# Altium footprint library Filters.PcbLib: 6 footprints
Each footprint in its own frame and in the unit in brackets; x right, y up, seen from the top. Pads: shape width x height; smd on the part's side, far side on the other; paste and mask are expansions set on the pad; w line width, h text height; cw(c..) or ccw(c..) is an arc to the next point about the centre after c.
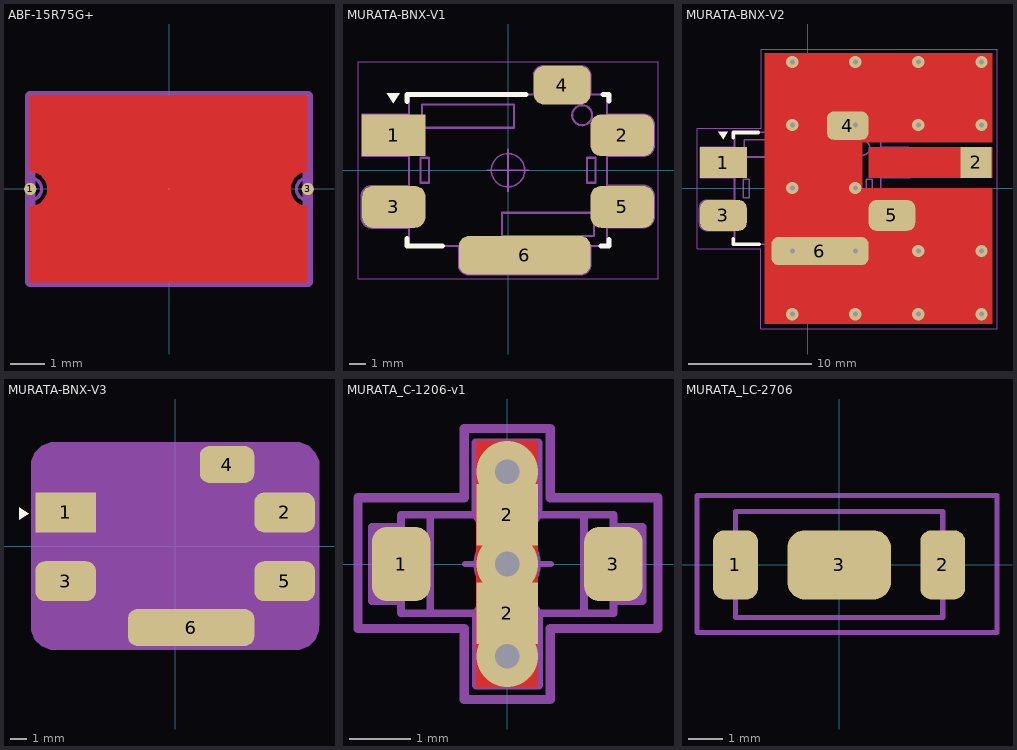
[diagram p0: the footprints below, top view; thin cyan lines are the x and y axes]

## ABF-15R75G+ [mm]
height 2.03
pads (3):
  round 0.36 smd: 1(-4.065,0) 3(4.065,0)
  round 0.025 smd: 2(0,0)
Top Layer:
  region: -4.065,-2.726 -4.065,-0.5 -4.016,-0.498 -3.92,-0.478 -3.829,-0.441 -3.748,-0.386 -3.679,-0.317 -3.624,-0.236 -3.587,-0.145 -3.568,-0.049 -3.568,0.049 -3.587,0.145 -3.624,0.236 -3.679,0.317 -3.748,0.386 -3.829,0.441 -3.92,0.478 -4.016,0.497 -4.065,0.5 -4.065,2.726 4.058,2.726 4.058,0.5 4.009,0.497 3.913,0.478 3.823,0.44 3.742,0.385 3.674,0.316 3.62,0.235 3.583,0.144 3.564,0.049 3.564,-0.049 3.583,-0.144 3.62,-0.235 3.674,-0.316 3.742,-0.385 3.823,-0.44 3.913,-0.478 4.009,-0.497 4.058,-0.5 4.058,-2.726
Top Assembly:
  lines w0.3: -4.065,-2.726 4.065,-2.726 4.065,2.726 -4.065,2.726 -4.065,-2.726
BOAS 7:
  lines w0.1: -4.065,-2.726 4.065,-2.726 4.065,-0.33 cw(c4.065,0) 4.065,0.33 4.065,2.726 -4.065,2.726 -4.065,0.33 cw(c-4.065,0) -4.065,-0.33 -4.065,-2.726
3D body: height 2.03, standoff 0, extent -4.065,-2.726 4.065,2.864

## MURATA-BNX-V1 [mm]
pads (6):
  rect 3.8x2.5 smd: 1(-6.85,2.1)
  rrect50% 3.8x2.5 smd: 2(6.85,2.1) 3(-6.85,-2.2) 5(6.85,-2.2)
  rrect50% 3.4x2.3 smd: 4(3.25,5.1)
  rrect50% 7.9x2.3 smd: 6(1,-5.1)
Top Overlay:
  region: -6.483,4.613 -7.283,4.613 -6.883,4.013
  lines w0.3: -6.05,-4.089 -6.05,-4.55 -3.937,-4.55 ; -6.05,4.115 -6.05,4.55 1.067,4.55 ; 5.588,-4.55 6.05,-4.55 6.05,-4.14 ; 5.69,4.55 6.05,4.55 6.05,4.166
Top Assembly:
  circle w0.127: c4.45,3.3 r0.6
  lines w0.127: -6,-3.45 -8.175,-3.45 cw(c-8.175,-2.825) -8.8,-2.825 -8.8,-1.575 cw(c-8.175,-1.575) -8.175,-0.95 -6,-0.95 ; -5.95,-2.75 -6.05,-2.75 -6.05,-1.45 -5.95,-1.45 ; -5.95,0.85 -8.75,0.85 -8.75,3.35 -5.95,3.35 ; -5.95,1.45 -6.05,1.45 -6.05,2.75 -5.95,2.75 ; -2.95,-4.55 -2.95,-5.675 ccw(c-2.375,-5.675) -2.375,-6.25 4.375,-6.25 ccw(c4.375,-5.675) 4.95,-5.675 4.95,-4.55 ; 5.95,-3.425 8.125,-3.425 ccw(c8.125,-2.8) 8.75,-2.8 8.75,-1.55 ccw(c8.125,-1.55) 8.125,-0.925 5.95,-0.925 ; 5.95,-2.75 6.05,-2.75 6.05,-1.45 5.95,-1.45 ; 5.95,0.85 8.125,0.85 ccw(c8.125,1.475) 8.75,1.475 8.75,2.725 ccw(c8.125,2.725) 8.125,3.35 5.95,3.35 ; 5.95,1.45 6.05,1.45 6.05,2.75 5.95,2.75 ; -5.95,-4.55 5.95,-4.55 5.95,4.55 -5.95,4.55 -5.95,-4.55 ; -5.25,-0.75 -4.75,-0.75 -4.75,0.75 -5.25,0.75 -5.25,-0.75 ; -5.15,2.55 0.35,2.55 0.35,3.95 -5.15,3.95 -5.15,2.55 ; -0.35,-3.95 5.15,-3.95 5.15,-2.55 -0.35,-2.55 -0.35,-3.95 ; 1.55,4.55 2.05,4.55 4.45,4.55 4.95,4.55 4.95,5.675 ccw(c4.375,5.675) 4.375,6.25 2.125,6.25 ccw(c2.125,5.675) 1.55,5.675 1.55,4.55 ; 4.75,-0.75 5.25,-0.75 5.25,0.75 4.75,0.75 4.75,-0.75
Top Component Outline:
  lines w0.05: -9,-6.5 9,-6.5 9,6.5 -9,6.5 -9,-6.5
  lines w0.1: -1.25,0 1.25,0 ; 0,-1.25 0,1.25
Top Component Center:
  circle w0.1: c0,0 r1
3D body "BNX022-01L.stp": height 3.33, standoff 0.03, extent -8.75,-6.25 8.75,6.25

## MURATA-BNX-V2 [mm]
pads (6):
  rect 3.8x2.5 smd: 1(-6.85,2.1)
  rect 2.5x2.5 smd mask+0.102: 2(13.691,2.108)
  rrect50% 3.8x2.5 smd: 3(-6.85,-2.2) 5(6.85,-2.2)
  rrect50% 3.4x2.3 smd: 4(3.25,5.1)
  rrect50% 7.9x2.3 smd: 6(1,-5.1)
via 3.875,0.025 diameter 1 hole 0.4
via 3.875,-5.1 diameter 1 hole 0.4
via -1.25,-5.1 diameter 1 hole 0.4
via -1.25,0.025 diameter 1 hole 0.4
via 3.875,-10.225 diameter 1 hole 0.4
via -1.25,-10.225 diameter 1 hole 0.4
via 3.875,5.15 diameter 1 hole 0.4
via -1.25,5.15 diameter 1 hole 0.4
via 3.875,10.275 diameter 1 hole 0.4
via -1.25,10.275 diameter 1 hole 0.4
via 9,5.15 diameter 1 hole 0.4
via 9,10.275 diameter 1 hole 0.4
via 14.125,5.15 diameter 1 hole 0.4
via 14.125,10.275 diameter 1 hole 0.4
via 9,-10.225 diameter 1 hole 0.4
via 9,-5.1 diameter 1 hole 0.4
via 14.125,-10.225 diameter 1 hole 0.4
via 14.125,-5.1 diameter 1 hole 0.4
Top Layer:
  region: -3.5,11 -3.5,0 -3.5,-11 15,-11 15,0 4.45,0 4.45,3.75 15,3.75 15,11 4.45,11
  region: 4.95,0.85 15,0.85 15,3.35 4.95,3.35
Top Overlay:
  region: -6.483,4.613 -7.283,4.613 -6.883,4.013
  lines w0.3: -6.05,-4.089 -6.05,-4.55 -3.937,-4.55 ; -6.05,4.115 -6.05,4.55 -4.039,4.55
Top Assembly:
  circle w0.127: c4.45,3.3 r0.6
  lines w0.127: -6,-3.45 -8.175,-3.45 cw(c-8.175,-2.825) -8.8,-2.825 -8.8,-1.575 cw(c-8.175,-1.575) -8.175,-0.95 -6,-0.95 ; -5.95,-2.75 -6.05,-2.75 -6.05,-1.45 -5.95,-1.45 ; -5.95,0.85 -8.75,0.85 -8.75,3.35 -5.95,3.35 ; -5.95,1.45 -6.05,1.45 -6.05,2.75 -5.95,2.75 ; -2.95,-4.55 -2.95,-5.675 ccw(c-2.375,-5.675) -2.375,-6.25 4.375,-6.25 ccw(c4.375,-5.675) 4.95,-5.675 4.95,-4.55 ; 5.95,-3.425 8.125,-3.425 ccw(c8.125,-2.8) 8.75,-2.8 8.75,-1.55 ccw(c8.125,-1.55) 8.125,-0.925 5.95,-0.925 ; 5.95,-2.75 6.05,-2.75 6.05,-1.45 5.95,-1.45 ; 5.95,0.85 8.125,0.85 ccw(c8.125,1.475) 8.75,1.475 8.75,2.725 ccw(c8.125,2.725) 8.125,3.35 5.95,3.35 ; 5.95,1.45 6.05,1.45 6.05,2.75 5.95,2.75 ; -5.95,-4.55 -5.95,4.55 5.95,4.55 5.95,-4.55 -5.95,-4.55 ; -5.25,-0.75 -5.25,0.75 -4.75,0.75 -4.75,-0.75 -5.25,-0.75 ; -5.15,2.55 -5.15,3.95 0.35,3.95 0.35,2.55 -5.15,2.55 ; -0.35,-3.95 -0.35,-2.55 5.15,-2.55 5.15,-3.95 -0.35,-3.95 ; 1.55,4.55 1.55,5.675 cw(c2.125,5.675) 2.125,6.25 4.375,6.25 cw(c4.375,5.675) 4.95,5.675 4.95,4.55 4.45,4.55 2.05,4.55 1.55,4.55 ; 4.75,-0.75 4.75,0.75 5.25,0.75 5.25,-0.75 4.75,-0.75
Top Component Outline:
  lines w0.05: -9,-4.928 -9,4.877 -3.759,4.877 -3.759,11.303 15.392,11.303 15.392,-11.405 -3.835,-11.405 -3.835,-4.928 -9,-4.928
  lines w0.1: -1.25,0 1.25,0 ; 0,-1.25 0,1.25
Top Component Center:
  circle w0.1: c0,0 r1
3D body "BNX022-01L.stp": height 3.33, standoff 0.03, extent -8.75,-6.25 8.75,6.25

## MURATA-BNX-V3 [mm]
pads (6):
  rect 3.8x2.5 smd: 1(-6.85,2.1)
  rrect50% 3.8x2.5 smd: 2(6.85,2.1) 3(-6.85,-2.2) 5(6.85,-2.2)
  rrect50% 3.4x2.3 smd: 4(3.25,5.1)
  rrect50% 7.9x2.3 smd: 6(1,-5.1)
Top Overlay:
  region: -9.769,2.432 -9.769,1.632 -9.169,2.032
Top Solder:
  region: -7.5,-6.5 7.5,-6.5 7.648,-6.5 7.938,-6.442 8.211,-6.329 8.456,-6.165 8.665,-5.956 8.829,-5.711 8.942,-5.438 9,-5.148 9,-5 9,5 9,5.148 8.942,5.438 8.829,5.711 8.665,5.956 8.456,6.165 8.211,6.329 7.938,6.442 7.648,6.5 7.5,6.5 -7.5,6.5 -7.648,6.5 -7.938,6.442 -8.211,6.329 -8.456,6.165 -8.665,5.956 -8.829,5.711 -8.942,5.438 -9,5.148 -9,5 -9,-5 -9,-5.148 -8.942,-5.438 -8.829,-5.711 -8.665,-5.956 -8.456,-6.165 -8.211,-6.329 -7.938,-6.442 -7.648,-6.5
Board:
  cavity: -7.5,-6.5 7.5,-6.5 7.798,-6.5 8.35,-6.272 8.772,-5.85 9,-5.298 9,-5 9,5 9,5.298 8.772,5.85 8.35,6.272 7.798,6.5 7.5,6.5 -7.5,6.5 -7.798,6.5 -8.35,6.272 -8.772,5.85 -9,5.298 -9,5 -9,-5 -9,-5.298 -8.772,-5.85 -8.35,-6.272 -7.798,-6.5
Top Assembly:
  circle w0.127: c4.45,3.3 r0.6
  lines w0.127: -6,-3.45 -8.175,-3.45 cw(c-8.175,-2.825) -8.8,-2.825 -8.8,-1.575 cw(c-8.175,-1.575) -8.175,-0.95 -6,-0.95 ; -5.95,-2.75 -6.05,-2.75 -6.05,-1.45 -5.95,-1.45 ; -5.95,0.85 -8.75,0.85 -8.75,3.35 -5.95,3.35 ; -5.95,1.45 -6.05,1.45 -6.05,2.75 -5.95,2.75 ; -2.95,-4.55 -2.95,-5.675 ccw(c-2.375,-5.675) -2.375,-6.25 4.375,-6.25 ccw(c4.375,-5.675) 4.95,-5.675 4.95,-4.55 ; 5.95,-3.425 8.125,-3.425 ccw(c8.125,-2.8) 8.75,-2.8 8.75,-1.55 ccw(c8.125,-1.55) 8.125,-0.925 5.95,-0.925 ; 5.95,-2.75 6.05,-2.75 6.05,-1.45 5.95,-1.45 ; 5.95,0.85 8.125,0.85 ccw(c8.125,1.475) 8.75,1.475 8.75,2.725 ccw(c8.125,2.725) 8.125,3.35 5.95,3.35 ; 5.95,1.45 6.05,1.45 6.05,2.75 5.95,2.75 ; -5.95,-4.55 5.95,-4.55 5.95,4.55 -5.95,4.55 -5.95,-4.55 ; -5.25,-0.75 -4.75,-0.75 -4.75,0.75 -5.25,0.75 -5.25,-0.75 ; -5.15,2.55 0.35,2.55 0.35,3.95 -5.15,3.95 -5.15,2.55 ; -0.35,-3.95 5.15,-3.95 5.15,-2.55 -0.35,-2.55 -0.35,-3.95 ; 1.55,4.55 2.05,4.55 4.45,4.55 4.95,4.55 4.95,5.675 ccw(c4.375,5.675) 4.375,6.25 2.125,6.25 ccw(c2.125,5.675) 1.55,5.675 1.55,4.55 ; 4.75,-0.75 5.25,-0.75 5.25,0.75 4.75,0.75 4.75,-0.75
Top Component Outline:
  lines w0.1: -1.25,0 1.25,0 ; 0,-1.25 0,1.25
Top Component Center:
  circle w0.1: c0,0 r1
3D body "BNX022-01L.stp": height 3.33, standoff 0.03, extent -8.75,-6.25 8.75,6.25

## MURATA_C-1206-v1 [mm] "NFM31PC/31KC"
pads (4):
  rrect50% 0.95x1.2 smd: 1(-1.725,0) 3(1.725,0)
  rect 1x1 smd: 2(0,-0.8) 2(0,0.8)
via 0,0 diameter 1 hole 0.4
via 0,-1.5 diameter 1 hole 0.4
via 0,1.5 diameter 1 hole 0.4
Top Layer:
  region: 0.5,2 -0.5,2 -0.5,-2 0.5,-2
Top Assembly:
  lines w0.127: -1.725,-0.6 -2.2,-0.6 -2.2,0.6 -1.725,0.6 ; -1.25,-0.8 -1.25,0.8 ; -0.715,-0.8 0.475,-0.8 ; -0.508,-0.8 cw(c0,-1.078) 0.508,-0.8 ; -0.506,-0.8 -0.506,-1.975 0.515,-1.975 0.515,-0.8 ; 1.25,-0.8 1.25,0.8 ; 1.725,-0.6 2.2,-0.6 2.2,0.6 1.725,0.6 ; -0.515,0.8 ccw(c-0.004,1.073) 0.506,0.8 ; -0.515,0.8 0.506,0.8 ; -0.515,0.8 -0.515,1.975 0.506,1.975 0.506,0.8 ; -1.725,-0.8 1.725,-0.8 1.725,0.8 -1.725,0.8 -1.725,-0.8
Top Component Outline:
  lines w0.15: -2.425,-1.05 -0.7,-1.05 -0.7,-2.2 0.7,-2.2 0.7,-1.05 2.45,-1.05 2.45,1.075 0.7,1.075 0.7,2.2 -0.7,2.2 -0.7,1.075 -2.425,1.075 -2.425,-1.05
Top Component Center:
  circle w0.1: c0,0 r0.5
  lines w0.1: -0.686,0 0.711,0 ; -0.001,-0.706 -0.001,0.691
3D body: height 1.3, standoff 0, extent 1.25,-0.8 1.725,0.796
3D body: height 1.3, standoff 0, extent -0.5,-0.8 0.5,-0.499
3D body: height 1.3, standoff 0, extent -0.5,0.499 0.5,0.8
3D body: height 1.3, standoff 0, extent -1.725,-0.796 -1.25,0.8
3D body: height 1.3, standoff 0, extent -1.25,-0.8 1.25,0.8

## MURATA_LC-2706 [mm]
pads (3):
  rrect50% 1.3x2 smd: 1(-3,0) 2(3,0)
  rrect50% 3x2 smd: 3(0,0)
Top Assembly:
  lines w0.15: -3,-1.524 3,-1.524 3,1.549 -3,1.549 -3,-1.524
Top Component Outline:
  lines w0.15: -4.115,-1.956 4.572,-1.956 4.572,2.007 -4.115,2.007 -4.115,-1.956
Top Component Center:
  circle w0.1: c0,0 r0.5
  lines w0.1: -0.686,0 0.711,0 ; -0.001,-0.706 -0.001,0.691